# Altium footprint library PCB - CONNECTOR - SAMTEC - SAMTEC HSEC8-110-01-L-DV-A.PcbLib: 1 footprints
Each footprint in its own frame and in the unit in brackets; x right, y up, seen from the top. Pads: shape width x height; smd on the part's side, far side on the other; paste and mask are expansions set on the pad; w line width, h text height; cw(c..) or ccw(c..) is an arc to the next point about the centre after c.
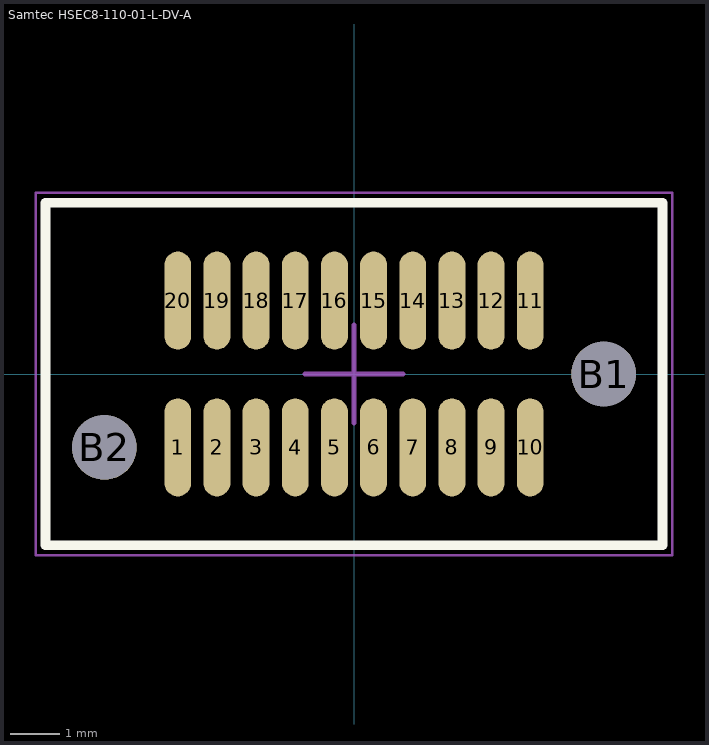
[diagram p0: the footprint, top view; thin cyan lines are the x and y axes]

## Samtec HSEC8-110-01-L-DV-A [mm] "20 Position Female Connector, Daul Edge, 0.8mm Pitch, 12.6x7.00mm Body"
pads (22):
  oval 0.55x2 smd: 1(-3.6,-1.5) 2(-2.8,-1.5) 3(-2,-1.5) 4(-1.2,-1.5) 5(-0.4,-1.5) 6(0.4,-1.5) 7(1.2,-1.5) 8(2,-1.5) 9(2.8,-1.5) 10(3.6,-1.5) 11(3.6,1.5) 12(2.8,1.5) 13(2,1.5) 14(1.2,1.5) 15(0.4,1.5) 16(-0.4,1.5) 17(-1.2,1.5) 18(-2,1.5) 19(-2.8,1.5) 20(-3.6,1.5)
  round 1.32 hole 1.32 unplated: B1(5.1,0) B2(-5.1,-1.5)
Top Overlay:
  lines w0.2: -6.3,-3.5 6.3,-3.5 6.3,3.5 -6.3,3.5 -6.3,-3.5
Mechanical 1:
  lines w0.1: -6.3,-3.5 -6.3,3.5 6.3,3.5 6.3,-3.5 -6.3,-3.5
Mechanical 15 (Mech15):
  lines w0.05: -6.5,-3.7 6.5,-3.7 6.5,3.7 -6.5,3.7 -6.5,-3.7
  lines w0.1: -1,0 0,0 ; 0,-1 0,0 ; 0,1 0,0 ; 1,0 0,0
3D body "Samtec - HSEC8-110-01-L-DV-A v3.step": height 7.98, standoff -1.32, extent -6.3,-3.5 6.3,3.5